# EAGLE library part MCP1623/24 (library MCP1623)
IC, BOOST, REG, PWM/PFM, SOT-23-6 Primary Input Voltage: 5.5V No. of Outputs: 1 Output Voltage: 5.5V Output Current: 50mA Voltage Regulator Case Style: SOT-23 No. of Pins: 6 Operating Temperature Range: -40°C to +85°C SVHC: No SVHC (18-Jun-2012) Base Number: 1623
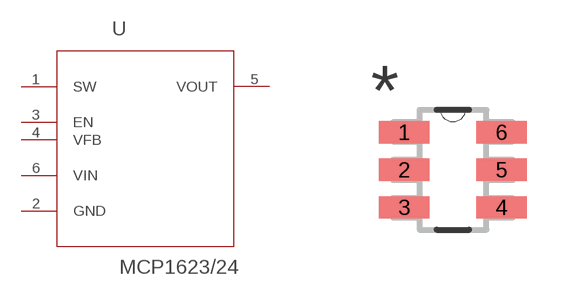
[diagram p1: symbol with the pads of SOT95P300X120-6N; footprint SOT95P300X120-6N]

Designator prefix -

## MCP1623/24  [SOT95P300X120-6N]
1  SW  pwr
2  GND  pas
3  EN  in
4  VFB  in
5  VOUT  out
6  VIN  in

## Footprint SOT95P300X120-6N (pad centres in mm)
smd 1.27 x 0.559: 1 -1.219,0.94; 2 -1.219,0; 3 -1.219,-0.94; 4 1.219,-0.94; 5 1.219,0; 6 1.219,0.94